# EAGLE library part J00-0045 (library xess)
10/100 Ethernet Connector
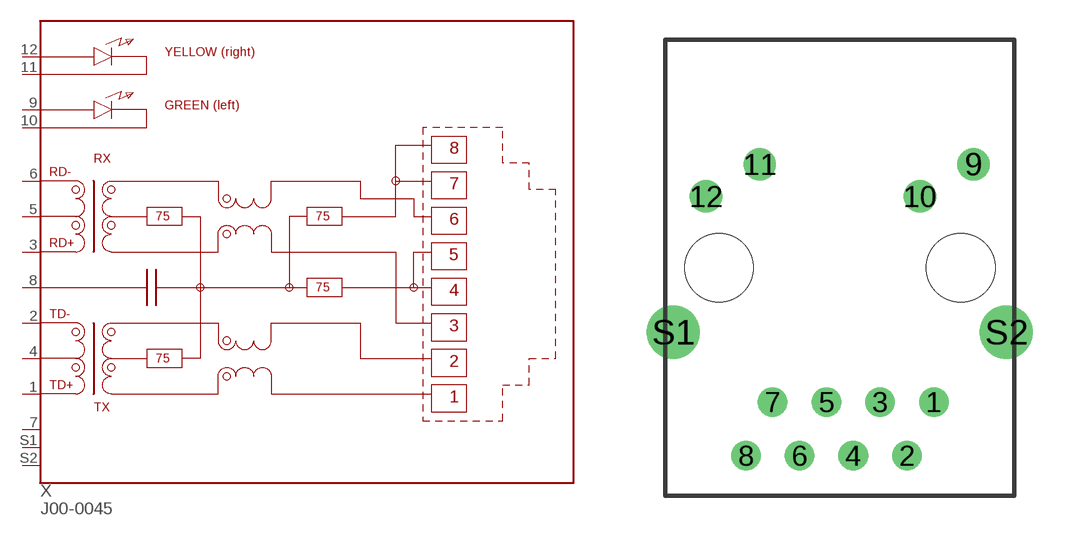
[diagram p53: symbol with the pads of J00-0045; footprint J00-0045]

Designator prefix X

## J00-0045  [J00-0045]
1  1  pas
2  2  pas
3  3  pas
4  4  pas
5  5  pas
6  6  pas
7  7  nc
8  8  pas
9  9
10  10
11  11
12  12
S1  S1  pas
S2  S2  pas

## Footprint J00-0045 (pad centres in mm)
drill 0.889 round: 1 4.445,-6.35; 2 3.175,-8.89; 3 1.905,-6.35; 4 0.635,-8.89; 5 -0.635,-6.35; 6 -1.905,-8.89; 7 -3.175,-6.35; 8 -4.445,-8.89
drill 1.02 round: 9 6.325,4.9; 10 3.785,3.38; 11 -3.785,4.9; 12 -6.325,3.38
drill 1.676 round: S1 -7.875,-3.05; S2 7.875,-3.05
hole 3.251 at 5.715,0
hole 3.251 at -5.715,0